# Altium schematic symbol library Resistors.SchLib: 36 symbols
Pins are listed as number, name and electrical type; pins without a type are passive.

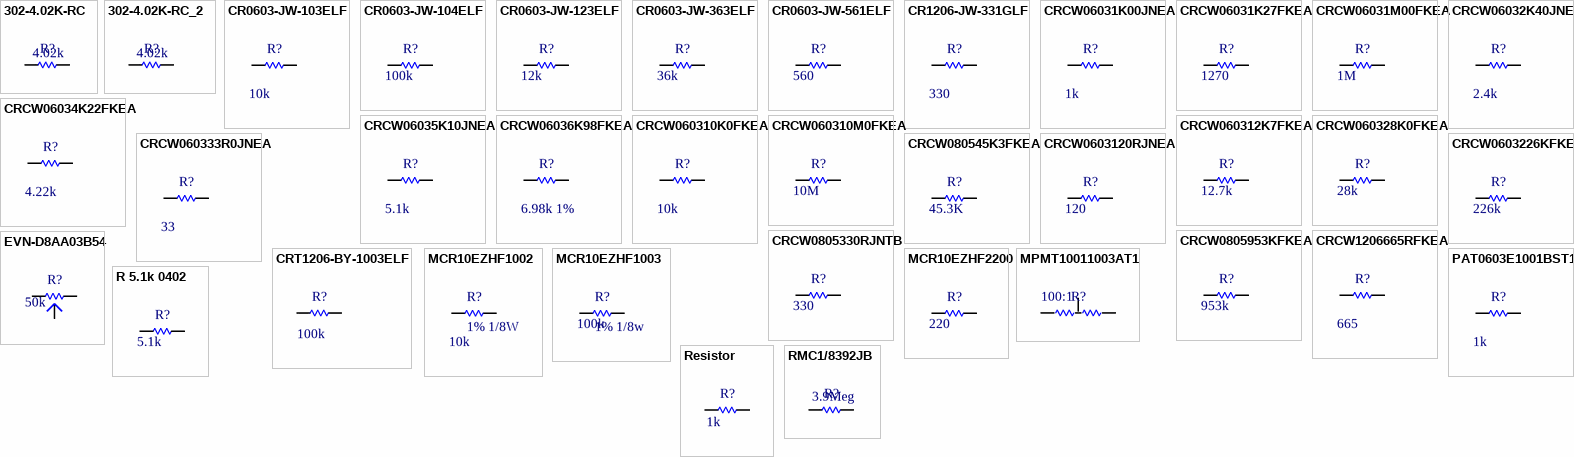
[diagram p0: symbols 302-4.02K-RC to RMC1/8392JB]

## 302-4.02K-RC
designator R?  value 4.02k  (hidden comment: *)
0603  4.02KOhms resistor; ComponentLink1URL: http://www.mouser.com/catalog/specsheets/XC-600037.pdf; ComponentLink1Description: datasheet
footprint 0603_A (0603 Style A SMT resistor)
pins: 1, 2

## 302-4.02K-RC_2
designator R?  value 4.02k  (hidden comment: *)
0603  4.02KOhms resistor; ComponentLink1URL: http://www.mouser.com/catalog/specsheets/XC-600037.pdf; ComponentLink1Description: datasheet
footprint 0603_a (0603 Style A SMT resistor)
pins: 1, 2

## CR0603-JW-103ELF
designator R?  value 10k  (hidden comment: *)
0603 10kOhm resistor; ComponentLink1Description: Datasheet; ComponentLink1URL: http://www.bourns.com/data/global/pdfs/CHPREZTR.pdf
footprint 0603_B (0603 Style B SMT capacitor)
footprint 0603_A (0603 Style A SMT capacitor)
pins: 1, 2

## CR0603-JW-104ELF
designator R?  value 100k  (hidden comment: CR0603-JW-104ELF)
0603 100kOhm resistor; ComponentLink1Description: Datasheet; ComponentLink1URL: http://www.bourns.com/data/global/pdfs/CHPREZTR.pdf
footprint 0603_A (0603 Style A SMT resistor)
pins: 1, 2

## CR0603-JW-123ELF
designator R?  value 12k  (hidden comment: CR0603-JW-123ELF)
0603 12kOhm resistor; ComponentLink1URL: http://www.bourns.com/data/global/pdfs/CHPREZTR.pdf; ComponentLink1Description: datasheet
footprint 0603_A (0603 Style A SMT resistor)
pins: 1, 2

## CR0603-JW-363ELF
designator R?  value 36k  (hidden comment: *)
0603 36kOhm resistor; ComponentLink1URL: http://www.bourns.com/data/global/pdfs/CHPREZTR.pdf; ComponentLink1Description: datasheet
footprint 0603_A (0603 Style A SMT resistor)
pins: 1, 2

## CR0603-JW-561ELF
designator R?  value 560  (hidden comment: *)
0603 560 Ohm resistor; ComponentLink1URL: http://www.bourns.com/data/global/pdfs/CHPREZTR.pdf; ComponentLink1Description: datasheet
footprint 0603_B (0603 Style B SMT resistor)
pins: 1, 2

## CR1206-JW-331GLF
designator R?  value 330  (hidden comment: *)
1206 1/4watt 330 ohms 1%; ComponentLink1Description: Datasheet; ComponentLink1URL: http://www.bourns.com/data/global/pdfs/CHPREZTR.pdf; Supplier 1: http://www.mouser.com/ProductDetail/Bourns/CR1206-JW-331GLF/?qs=sGAEpiMZZMvdGkrng054t%2fh5BnJxeWSzzQykCG1a%252bhM%3d
footprint 1206 (1206 SMT resistor)
pins: 1, 2

## CRCW06031K00JNEA
designator R?  value 1k  (hidden comment: *)
0603 1kOhm resistor; ComponentLink1Description: Datasheet; ComponentLink1URL: http://www.bourns.com/data/global/pdfs/CHPREZTR.pdf
footprint 0603_B (0603 Style B SMT resistor)
pins: 1, 2

## CRCW06031K27FKEA
designator R?  value 1270  (hidden comment: *)
0603 1270 Ohm resistor; ComponentLink1URL: http://www.vishay.com/doc?20035; ComponentLink1Description: datasheet; Supplier1: http://search.digikey.com/scripts/DkSearch/dksus.dll?Detail&name=541-1.27KHCT-ND
footprint 0603_B (0603 Style B SMT resistor)
pins: 1, 2

## CRCW06031M00FKEA
designator R?  value 1M  (hidden comment: *)
0603 1MOhm resistor; ComponentLink1URL: http://www.vishay.com/doc?20035; ComponentLink1Description: datasheet; supplier1: http://search.digikey.com/scripts/DkSearch/dksus.dll?Detail&name=541-1.00MHCT-ND
footprint 0603_B (0603 Style B SMT resistor)
pins: 1, 2

## CRCW06032K40JNEA
designator R?  value 2.4k  (hidden comment: *)
0603 2.4kOhm resistor; ComponentLink1Description: Datasheet; ComponentLink1URL: http://www.bourns.com/data/global/pdfs/CHPREZTR.pdf
footprint 0603_B (0603 Style B SMT resistor)
pins: 1, 2

## CRCW06034K22FKEA
designator R?  value 4.22k  (hidden comment: *)
0603 4.22kOhm resistor; ComponentLink1Description: Datasheet; ComponentLink1URL: http://www.bourns.com/data/global/pdfs/CHPREZTR.pdf
footprint 0603_B (0603 Style B SMT resistor)
pins: 1, 2

## CRCW06035K10JNEA
designator R?  value 5.1k  (hidden comment: *)
0603 5.1kOhm resistor; ComponentLink1Description: Datasheet; ComponentLink1URL: http://www.bourns.com/data/global/pdfs/CHPREZTR.pdf
footprint 0603_B (0603 Style B SMT resistor)
pins: 1, 2

## CRCW06036K98FKEA
designator R?  value 6.98k 1%  (hidden comment: *)
0603 6.98kOhm resistor 1%; ComponentLink1Description: Datasheet; ComponentLink1URL: http://www.vishay.com/doc?20035
footprint 0603_B (0603 Style B SMT resistor)
pins: 1, 2

## CRCW060310K0FKEA
designator R?  value 10k  (hidden comment: *)
0603 10kOhm resistor 1%; ComponentLink1Description: Datasheet; ComponentLink1URL: http://www.vishay.com/doc?20035
footprint 0603_B (0603 Style B SMT resistor)
pins: 1, 2

## CRCW060310M0FKEA
designator R?  value 10M  (hidden comment: *)
0603 10M Ohm resistor; ComponentLink1URL: http://www.vishay.com/doc?20035; ComponentLink1Description: datasheet; supplier1: http://search.digikey.com/scripts/DkSearch/dksus.dll?Detail&name=541-10.0MHCT-ND
footprint 0603_B (0603 Style B SMT resistor)
pins: 1, 2

## CRCW060312K7FKEA
designator R?  value 12.7k  (hidden comment: *)
0603 12.7kOhm resistor; ComponentLink1URL: http://www.vishay.com/doc?20035; ComponentLink1Description: datasheet; supplier1: http://search.digikey.com/scripts/DkSearch/dksus.dll?Detail&name=541-12.7KHCT-ND
footprint 0603_B (0603 Style B SMT resistor)
pins: 1, 2

## CRCW060328K0FKEA
designator R?  value 28k  (hidden comment: *)
0603 28k Ohm resistor; ComponentLink1URL: http://www.vishay.com/doc?20035; ComponentLink1Description: datasheet; supplier1: http://search.digikey.com/scripts/DkSearch/dksus.dll?Detail&name=541-28.0KHCT-ND
footprint 0603_B (0603 Style B SMT resistor)
pins: 1, 2

## CRCW060333R0JNEA
designator R?  value 33  (hidden comment: *)
0603 33Ohm resistor; ComponentLink1Description: Datasheet; ComponentLink1URL: http://www.vishay.com/doc?20035
footprint 0603_B (0603 Style B SMT resistor)
pins: 1, 2

## CRCW080545K3FKEA
designator R?  value 45.3K  (hidden comment: *)
0805 45.3KOhm resistor; ComponentLink1URL: http://www.vishay.com/docs/20035/dcrcwe3.pdf; ComponentLink1Description: datasheet; supplier1: http://www.mouser.com/ProductDetail/Vishay-Dale/CRCW080545K3FKEA/?qs=sGAEpiMZZMvdGkrng054tygjBeyq%2fOAOfpkBZZuXz4o%3d
footprint 0805 (0805 SMT capacitor)
pins: 1, 2

## CRCW0603120RJNEA
designator R?  value 120  (hidden comment: *)
0603 120 Ohm resistor; ComponentLink1URL: http://www.vishay.com/doc?20035; ComponentLink1Description: datasheet; Supplier1: http://search.digikey.com/scripts/DkSearch/dksus.dll?Detail&name=541-120GCT-ND
footprint 0603_B (0603 Style B SMT resistor)
pins: 1, 2

## CRCW0603226KFKEA
designator R?  value 226k  (hidden comment: *)
0603 226k Ohm resistor; ComponentLink1URL: http://www.vishay.com/doc?20035; ComponentLink1Description: datasheet; supplier1: http://search.digikey.com/scripts/DkSearch/dksus.dll?Detail&name=541-226KHCT-ND
footprint 0603_B (0603 Style B SMT resistor)
pins: 1, 2

## CRCW0805330RJNTB
designator R?  value 330  (hidden comment: *)
0805 330 Ohm resistor; ComponentLink1URL: http://www.vishay.com/docs/20035/dcrcwe3.pdf; ComponentLink1Description: datasheet; supplier1: http://www.mouser.com/ProductDetail/Vishay-Dale/CRCW0805330RJNTB/?qs=TrAHXYCGmqwAeEsHiD0v1XiPbiSaDe22D7BlQiogzMU%3d
footprint 0805 (0805 SMT capacitor)
pins: 1, 2

## CRCW0805953KFKEA
designator R?  value 953k  (hidden comment: *)
0805 953k Ohm resistor; ComponentLink1URL: http://www.vishay.com/docs/20035/dcrcwe3.pdf; ComponentLink1Description: datasheet; supplier1: http://www.mouser.com/ProductDetail/Vishay-Dale/CRCW0805953KFKEA/?qs=sGAEpiMZZMvdGkrng054tygjBeyq%2fOAOrPXRW%2fOqF0w%3d
footprint 0805 (0805 SMT capacitor)
pins: 1, 2

## CRCW1206665RFKEA
designator R?  value 665  (hidden comment: *)
1206 1/4watt 665 ohms 1%; ComponentLink1Description: Datasheet; ComponentLink1URL: http://www.vishay.com/docs/20035/dcrcwe3.pdf; Supplier 1: http://www.mouser.com/ProductDetail/Vishay-Dale/CRCW1206665RFKEA/?qs=sGAEpiMZZMu61qfTUdNhG%2fy1ga03FwuGIGNAVMV6htk%3d
footprint 1206 (1206 SMT capacitor)
pins: 1, 2

## CRT1206-BY-1003ELF
designator R?  value 100k  (hidden comment: *)
1206 1/4watt 100k ohms 0.1%; ComponentLink1Description: Datasheet; ComponentLink1URL: http://www.bourns.com/data/global/PDFs/crt.pdf; Supplier 1: http://search.digikey.com/us/en/products/CRT1206-BY-1003ELF/CRT1206-BY-1003ELFCT-ND/1775052
footprint 1206 (1206 SMT capacitor)
pins: 1, 2

## EVN-D8AA03B54
designator R?  value 50k  (hidden comment: *)
50k trimmer pot; ComponentLink1Description: Datasheet; ComponentLink1URL: http://industrial.panasonic.com/www-data/pdf/AOH0000/AOH0000CE2.pdf; Supplier 1: http://search.digikey.com/us/en/products/EVN-D8AA03B54/D4AA54-ND/11091
footprint EVN-D8AA03B54 (trimmer pot)
pins: 1, 2, 3

## MCR10EZHF1002
designator R?, comment 1% 1/8W  value 10k
0805 10kOhm resistor 1% 1/8W; ComponentLink1Description: Datasheet; ComponentLink1URL: http://media.digikey.com/pdf/Data%20Sheets/Rohm%20PDFs/MCR10%20(new)%20series.pdf
footprint 0805 (0805 SMT capacitor)
pins: 1, 2

## MCR10EZHF1003
designator R?, comment 1% 1/8w  value 100k
0803 100kOhm resistor 1% 1/8w; ComponentLink1Description: Datasheet; ComponentLink1URL: http://media.digikey.com/pdf/Data%20Sheets/Rohm%20PDFs/MCR10%20(new)%20series.pdf
footprint 0805 (0805 SMT capacitor)
pins: 1, 2

## MCR10EZHF2200
designator R?  value 220  (hidden comment: *)
0805 220 Ohm  1% resistor; ComponentLink1URL: http://www.vishay.com/docs/20035/dcrcwe3.pdf; ComponentLink1Description: datasheet; supplier1: http://www.mouser.com/ProductDetail/Vishay-Dale/CRCW0805953KFKEA/?qs=sGAEpiMZZMvdGkrng054tygjBeyq%2fOAOrPXRW%2fOqF0w%3d
footprint 0805 (0805 SMT capacitor)
pins: 1, 2

## MPMT10011003AT1
designator R?  value 100:1  (hidden comment: *)
100:1 precision voltage divider; ComponentLink1URL: http://www.vishay.com/doc?60001; ComponentLink1Description: datasheet
footprint SOT-23
pins: 1, 2, 3

## PAT0603E1001BST1
designator R?  value 1k  (hidden comment: *)
0603 1kOhm resistor 0.1%; ComponentLink1Description: Datasheet; ComponentLink1URL: http://www.vishay.com/docs/60024/pat.pdf
footprint 0603_B (0603 Style B SMT resistor)
pins: 1, 2

## R 5.1k 0402
designator R?, comment Resistance: 5.1k  (hidden comment: RMCF0402FT5K10)
5.1k ohm, 0402 SMT, Thick Film Resistor; Manufacturer: Stackpole Electronics Inc; Power: 1/16W, 0.063W; Tolerance: ±1%; Latest Rev Note: Component Created; ComponentLink1Description: Datasheet; ComponentLink1URL: http://www.seielect.com/Catalog/SEI-RMC.pdf; ComponentLink2URL: http://www.seielect.com/products/productsearch.asp?SelFamilyID=1; ComponentLink2Description: MFG Product Page; Composition: Thick Film; Package: 0402; MFG Part Number: RMCF0402FT5K10; Latest Rev Date: Oct 31, 2010; Published: Oct 31, 2010; Publisher: Chris Bergsneider
footprint 0402 (0402 SMT resistor)
pins: 1, 2

## Resistor
designator R?  value 1k  (hidden comment: *)
footprint 0805_A (Footprint not found)
pins: 1, 2

## RMC1/8392JB
designator R?  value 3.9Meg  (hidden comment: *)
1206  3.9 MOhm resistor; ComponentLink1URL: http://www.mouser.com/catalog/specsheets/XC-600037.pdf; ComponentLink1Description: datasheet
footprint 1206 (1206 SMT capacitor)
pins: 1, 2